# Altium schematic symbol library LM2622.SchLib: 1 symbol
Pins are listed as number, name and electrical type; pins without a type are passive.

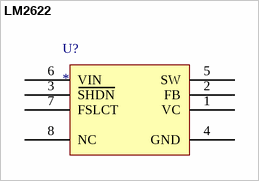
[diagram p0: symbol LM2622]

## LM2622
designator U?
pins: 1 VC, 2 FB, 3 SHDN, 4 GND, 5 SW, 6 VIN, 7 FSLCT, 8 NC